# Altium schematic symbol library BQ76PL536.SchLib: 1 symbol
Pins are listed as number, name and electrical type; pins without a type are passive.

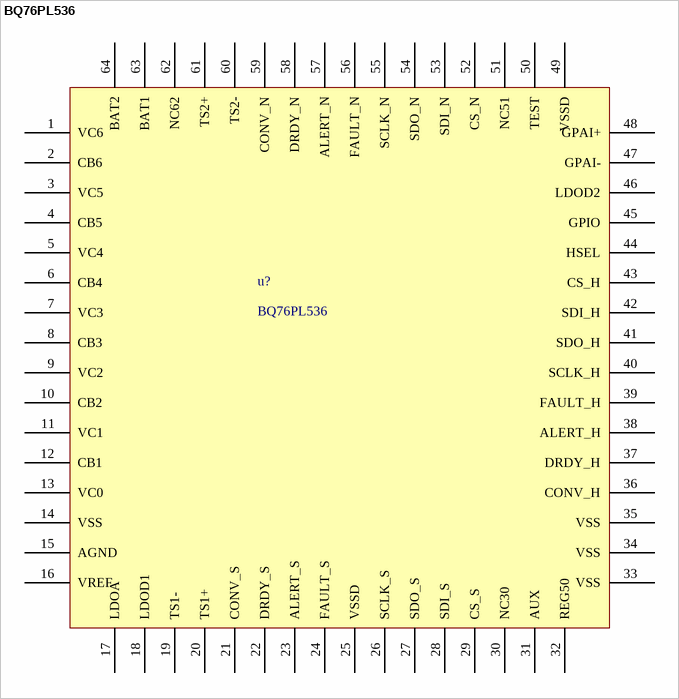
[diagram p0: symbol BQ76PL536]

## BQ76PL536
designator u?
pins: 1 VC6, 2 CB6, 3 VC5, 4 CB5, 5 VC4, 6 CB4, 7 VC3, 8 CB3, 9 VC2, 10 CB2, 11 VC1, 12 CB1, 13 VC0, 14 VSS, 15 AGND, 16 VREF, 17 LDOA, 18 LDOD1, 19 TS1-, 20 TS1+, 21 CONV_S, 22 DRDY_S, 23 ALERT_S, 24 FAULT_S, 25 VSSD, 26 SCLK_S, 27 SDO_S, 28 SDI_S, 29 CS_S, 30 NC30, 31 AUX, 32 REG50, 33 VSS, 34 VSS, 35 VSS, 36 CONV_H, 37 DRDY_H, 38 ALERT_H, 39 FAULT_H, 40 SCLK_H, 41 SDO_H, 42 SDI_H, 43 CS_H, 44 HSEL, 45 GPIO, 46 LDOD2, 47 GPAI-, 48 GPAI+, 49 VSSD, 50 TEST, 51 NC51, 52 CS_N, 53 SDI_N, 54 SDO_N, 55 SCLK_N, 56 FAULT_N, 57 ALERT_N, 58 DRDY_N, 59 CONV_N, 60 TS2-, 61 TS2+, 62 NC62, 63 BAT1, 64 BAT2